# Altium footprint library LAB_003.PcbLib: 9 footprints
Each footprint in its own frame and in the unit in brackets; x right, y up, seen from the top. Pads: shape width x height; smd on the part's side, far side on the other; paste and mask are expansions set on the pad; w line width, h text height; cw(c..) or ccw(c..) is an arc to the next point about the centre after c.
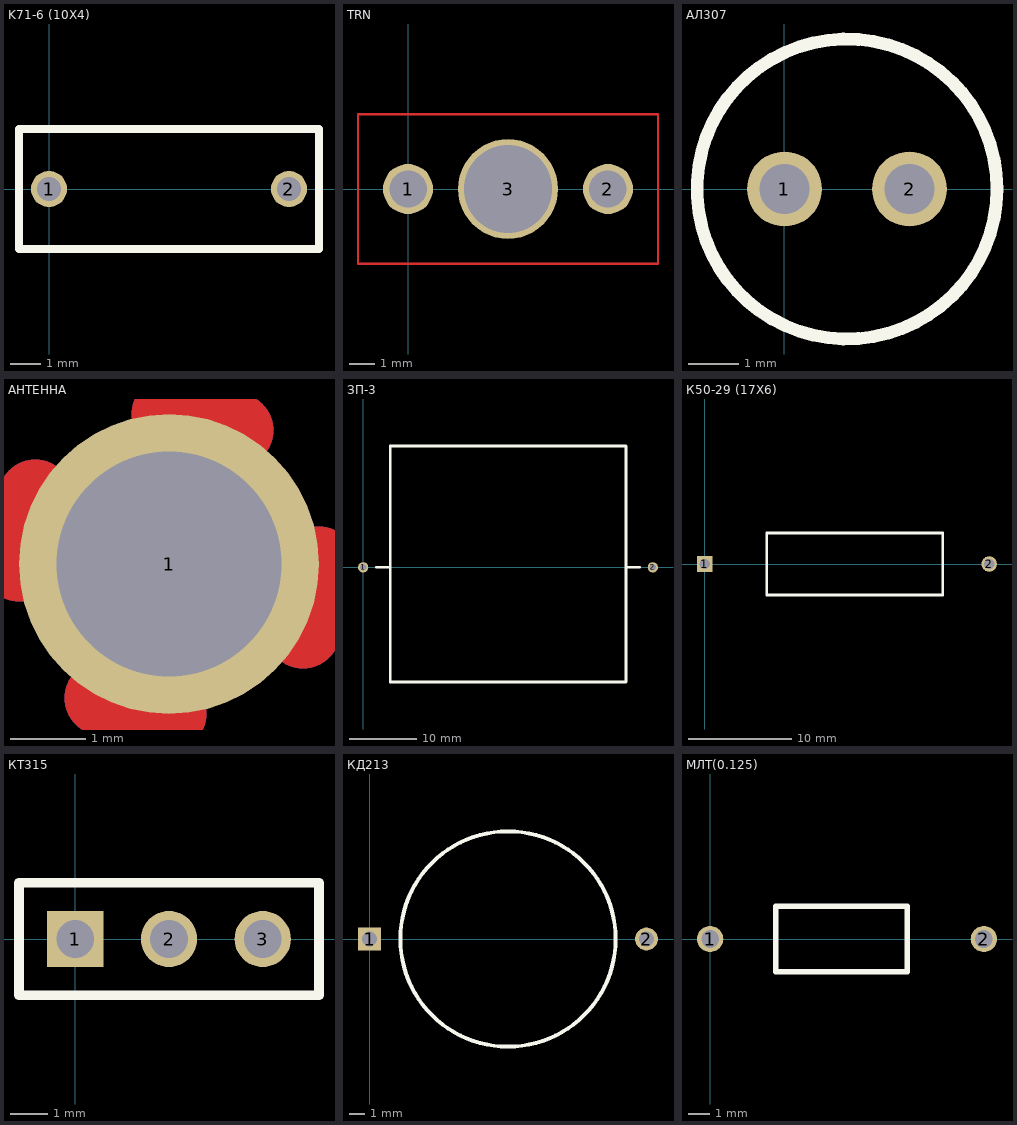
[diagram p0: the footprints below, top view; thin cyan lines are the x and y axes]

## K71-6 (10X4) [mm]
pads (2):
  round 1.2 hole 0.8: 1(0,0) 2(8,0)
Top Overlay:
  lines w0.254: -1,-2 9,-2 9,2 -1,2 -1,-2

## TRN [mm]
pads (3):
  round 2 hole 1.5: 1(0,0) 2(8,0)
  round 4 hole 3.5: 3(4,0)
Top Layer:
  lines w0.1: -2,-3 10,-3 10,3 -2,3 -2,-3

## АЛ307 [mm]
pads (2):
  round 1.5 hole 1: 1(0,0) 2(2.5,0)
Top Overlay:
  circle w0.254: c1.25,0 r3

## АНТЕННА [mm]
pads (1):
  round 4 hole 3: 1(0,0)
Top Layer:
  lines w1: -2,0 cw(c0,0) -1.788,0.896 ; -0.896,-1.788 ccw(c0,0) 0,-2 ; 0,2 cw(c0,0) 0.896,1.788 ; 1.788,-0.896 ccw(c0,0) 2,0
Bottom Layer:
  lines w1: -2,0 cw(c0,0) -1.788,0.896 ; -0.896,-1.788 ccw(c0,0) 0,-2 ; 0,2 cw(c0,0) 0.896,1.788 ; 1.788,-0.896 ccw(c0,0) 2,0

## ЗП-3 [mil]
pads (2):
  round 60 hole 39.37: 1(0,0) 2(1692.91,0)
Top Overlay:
  lines w15.75: 76.38,0 154.33,0 ; 1537.01,0 1614.96,0 ; 158.27,-669.29 1536.22,-669.29 1536.22,708.66 158.27,708.66 158.27,-669.29

## К50-29 (17Х6) [mm]
pads (2):
  rect 1.5x1.5 hole 1: 1(0,0)
  round 1.5 hole 1: 2(27.5,0)
Top Overlay:
  lines w0.254: 6,-3 23,-3 23,3 6,3 6,-3

## КT315 [mm]
pads (3):
  rect 1.5x1.5 hole 1: 1(0,0)
  round 1.5 hole 1: 2(2.5,0) 3(5,0)
Top Overlay:
  lines w0.254: -1.5,-1.5 6.5,-1.5 6.5,1.5 -1.5,1.5 -1.5,-1.5

## КД213 [mm]
pads (2):
  rect 1.5x1.5 hole 1: 1(0,0)
  round 1.5 hole 1: 2(18,0)
Top Overlay:
  circle w0.254: c9,0 r7

## МЛТ(0.125) [mm]
pads (2):
  round 1.2 hole 0.8: 1(0,0) 2(12.5,0)
Top Overlay:
  lines w0.254: 3,-1.5 9,-1.5 9,1.5 3,1.5 3,-1.5